# EAGLE library part DDR2-SDRAM_B3_A14_D8-? (library ic-RAM)
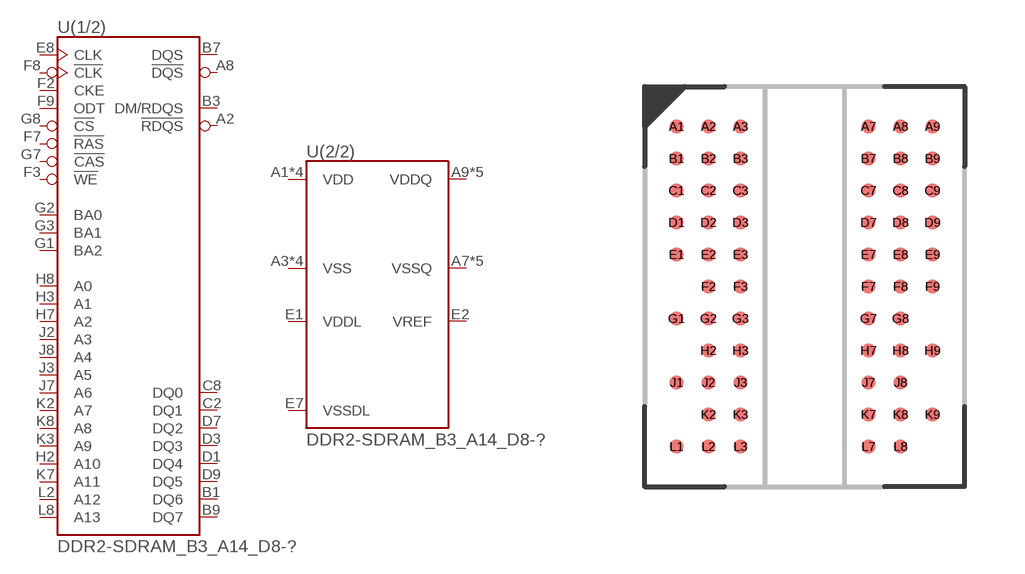
[diagram p1: symbol with the pads of BGA60-0.8; footprint BGA60-0.8]

Designator prefix U; gates (1/2)=DDR2-SDRAM_B3_A14_D8 (2/2)=DDR2-SDRAM_POWER

## DDR2-SDRAM_B3_A14_D8-FBGA60  [BGA60-0.8]
A1  (2/2):VDD
A2  (1/2):!RDQS
A3  (2/2):VSS
A7  (2/2):VSSQ
A8  (1/2):!DQS
A9  (2/2):VDDQ
B1  (1/2):DQ6
B2  (2/2):VSSQ
B3  (1/2):DM/RDQS
B7  (1/2):DQS
B8  (2/2):VSSQ
B9  (1/2):DQ7
C1  (2/2):VDDQ
C2  (1/2):DQ1
C3  (2/2):VDDQ
C7  (2/2):VDDQ
C8  (1/2):DQ0
C9  (2/2):VDDQ
D1  (1/2):DQ4
D2  (2/2):VSSQ
D3  (1/2):DQ3
D7  (1/2):DQ2
D8  (2/2):VSSQ
D9  (1/2):DQ5
E1  (2/2):VDDL
E2  (2/2):VREF
E3  (2/2):VSS
E7  (2/2):VSSDL
E8  (1/2):CLK
E9  (2/2):VDD
F2  (1/2):CKE
F3  (1/2):!WE
F7  (1/2):!RAS
F8  (1/2):!CLK
F9  (1/2):ODT
G1  (1/2):BA2
G2  (1/2):BA0
G3  (1/2):BA1
G7  (1/2):!CAS
G8  (1/2):!CS
H2  (1/2):A10
H3  (1/2):A1
H7  (1/2):A2
H8  (1/2):A0
H9  (2/2):VDD
J1  (2/2):VSS
J2  (1/2):A3
J3  (1/2):A5
J7  (1/2):A6
J8  (1/2):A4
K2  (1/2):A7
K3  (1/2):A9
K7  (1/2):A11
K8  (1/2):A8
K9  (2/2):VSS
L1  (2/2):VDD
L2  (1/2):A12
L8  (1/2):A13

## Footprint BGA60-0.8 (pad centres in mm)
smd 0.34 x 0.34: A1 -3.2,4; A2 -2.4,4; A3 -1.6,4; A7 1.6,4; A8 2.4,4; A9 3.2,4; B1 -3.2,3.2; B2 -2.4,3.2; B3 -1.6,3.2; B7 1.6,3.2; B8 2.4,3.2; B9 3.2,3.2; C1 -3.2,2.4; C2 -2.4,2.4; C3 -1.6,2.4; C7 1.6,2.4; C8 2.4,2.4; C9 3.2,2.4; D1 -3.2,1.6; D2 -2.4,1.6; D3 -1.6,1.6; D7 1.6,1.6; D8 2.4,1.6; D9 3.2,1.6; E1 -3.2,0.8; E2 -2.4,0.8; E3 -1.6,0.8; E7 1.6,0.8; E8 2.4,0.8; E9 3.2,0.8; F2 -2.4,0; F3 -1.6,0; F7 1.6,0; F8 2.4,0; F9 3.2,0; G1 -3.2,-0.8; G2 -2.4,-0.8; G3 -1.6,-0.8; G7 1.6,-0.8; G8 2.4,-0.8; H2 -2.4,-1.6; H3 -1.6,-1.6; H7 1.6,-1.6; H8 2.4,-1.6; H9 3.2,-1.6; J1 -3.2,-2.4; J2 -2.4,-2.4; J3 -1.6,-2.4; J7 1.6,-2.4; J8 2.4,-2.4; K2 -2.4,-3.2; K3 -1.6,-3.2; K7 1.6,-3.2; K8 2.4,-3.2; K9 3.2,-3.2; L1 -3.2,-4; L2 -2.4,-4; L3 -1.6,-4; L7 1.6,-4; L8 2.4,-4